# Altium schematic symbol library diode.SchLib: 33 symbols
Pins are listed as number, name and electrical type; pins without a type are passive.

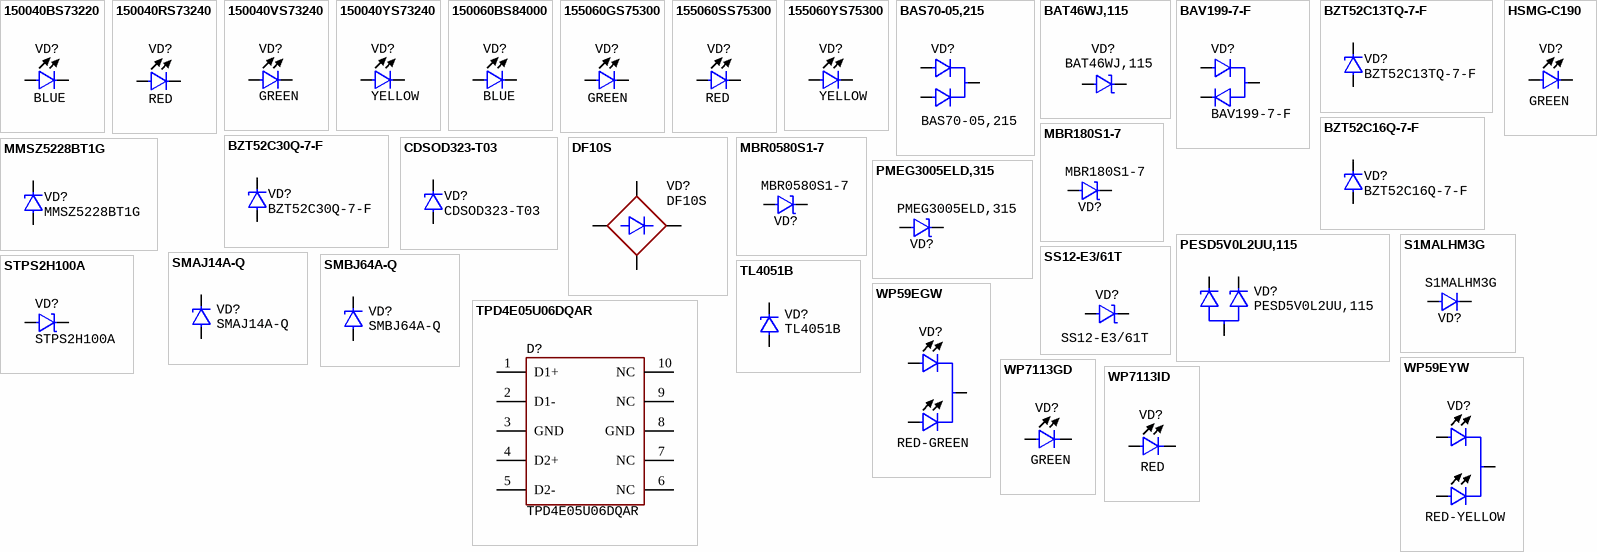
[diagram p0: symbols 150040BS73220 to WP7113ID]

## 150040BS73220
designator VD?  Color: BLUE  (hidden comment: 150040BS73220)
LED, Blue, case 0402, 3.2V, 30mA, -40...+85°C; Manufacturer: Wurth; Manufacturer: Wurth Electronics; PartNumber: 150040BS73220; Package: 0402; HelpURL: https://ru.mouser.com/ProductDetail/Wurth-Elektronik/150040BS73220?qs=u16ybLDytRa6gY6jG0El6g%3D%3D; Manufacturer Part Number: 150040BS73220; Component Type: Diodes
footprint LED: 0402B
pins: 1, 2

## 150040RS73240
designator VD?  Color: RED  (hidden comment: 150040RS73240)
LED, Red, case 0402, 2V, 30mA, -40...+85°C; Manufacturer: Wurth; Manufacturer: Wurth Electronics; HelpURL: https://eu.mouser.com/ProductDetail/Wurth-Elektronik/150040RS73240?qs=8Aam6%252B7C6HGMiInmnlrBiw%3D%3D; PartNumber: 150040RS73240; Package: 0402; Manufacturer Part Number: 150040RS73240; Component Type: Diodes
footprint LED: 0402R
pins: 1, 2

## 150040VS73240
designator VD?  Color: GREEN  (hidden comment: 150040VS73240)
LED, Green, case 0402, 2V, 30mA, -40...+85°C; Manufacturer: Wurth; Manufacturer: Wurth Electronics; HelpURL: https://ru.mouser.com/ProductDetail/Wurth-Elektronik/150040VS73240?qs=8Aam6%252B7C6HEhyesRm%252BQyFQ%3D%3D; Package: 0402; PartNumber: 150040VS73240; Manufacturer Part Number: 150040VS73240; Component Type: Diodes
footprint LED: 0402G
pins: 1, 2

## 150040YS73240
designator VD?  Color: YELLOW  (hidden comment: 150040YS73240)
LED, Yellow, case 0402, 2V, 30mA, -40...+85°C; Manufacturer: Wurth; Manufacturer: Wurth Electronics; HelpURL: https://ru.mouser.com/ProductDetail/Wurth-Elektronik/150040YS73240?qs=8Aam6%252B7C6HFi%252BY4Pboxj6w%3D%3D; Package: 0402; PartNumber: 150040YS73240; Manufacturer Part Number: 150040YS73240; Component Type: Diodes
footprint LED: 0402Y
pins: 1, 2

## 150060BS84000
designator VD?  Color: BLUE  (hidden comment: 150060BS84000)
LED, Blue, case 0603, 3.2V, 30mA, -40...+85°C; Manufacturer: Wurth; Manufacturer: Wurth Electronics; HelpURL: https://ru.mouser.com/ProductDetail/Wurth-Elektronik/150060BS84000?qs=GedFDFLaBXH%2FqfYoSeFEow%3D%3D; PartNumber: 150060BS84000; Package: 0603; Manufacturer Part Number: 150060BS84000; Component Type: Diodes
footprint LED: 0603B
pins: 1, 2

## 155060GS75300
designator VD?  Color: GREEN  (hidden comment: 155060GS75300)
LED, Green, case 0603, 3.2V, 30mA, -40...+85°C; Manufacturer: Wurth; Manufacturer: Wurth Electronics; PartNumber: 155060GS75300; Package: 0603; HelpURL: https://ru.mouser.com/ProductDetail/Wurth-Elektronik/155060GS75300?qs=GedFDFLaBXH9gWG%252BJzMHAg%3D%3D; Manufacturer Part Number: 155060GS75300; Component Type: Diodes
footprint LED: 0603G
pins: 1, 2

## 155060SS75300
designator VD?  Color: RED  (hidden comment: 155060SS75300)
LED, Red, case 0603, 2V, 20mA, -40...+85°C; Manufacturer: Wurth; Manufacturer: Wurth Electronics; HelpURL: https://ru.mouser.com/ProductDetail/Wurth-Elektronik/155060SS75300?qs=GedFDFLaBXFp%252Bdn3xLi%2Ftw%3D%3D; Package: 0603; PartNumber: 155060SS75300; Manufacturer Part Number: 155060SS75300; Component Type: Diodes
footprint LED: 0603R
pins: 1, 2

## 155060YS75300
designator VD?  Color: YELLOW  (hidden comment: 155060YS75300)
LED, Yellow, case 0603, 2.0V, 20mA, -40...+85°C; Manufacturer: Wurth; Manufacturer: Wurth Electronics; Package: 0603; PartNumber: 155060YS75300; HelpURL: https://ru.mouser.com/ProductDetail/Wurth-Elektronik/155060YS75300?qs=GedFDFLaBXEwSIA7gkV3Wg%3D%3D; Manufacturer Part Number: 155060YS75300; Component Type: Diodes
footprint LED: 0603Y
pins: 1, 2

## BAS70-05,215
designator VD?
Dual fast, 70V, 70mA, 1V, SOT-23, -65...+150°C; Manufacturer: STMicroelectronics; Manufacturer: Nexperia; Package: SOT-23; HelpURL: https://ru.mouser.com/ProductDetail/STMicroelectronics/BAT54AFILM?qs=ZqsBt%2FsRP872DE5MvMainw%3D%3D; Manufacturer Part Number: BAS70-05,215; Component Type: Diodes; PartNumber: BAS70-05,215
footprint SOT23
pins: 1, 2, 3

## BAT46WJ,115
designator VD?
Schottky, 100V, 250mA, SOD-323, 71mV, -55...+175°C; Manufacturer: Nexperia; Package: SOD-323; HelpURL: https://ru.mouser.com/ProductDetail/Nexperia/BAT46WJ115?qs=0kdNCY%252BdvEBTfZilQVwWsg%3D%3D; Manufacturer Part Number: BAT46WJ,115; Component Type: Diodes; PartNumber: BAT46WJ,115
footprint DIODE: SOD323
pins: 1, 2

## BAV199-7-F
designator VD?
Dual fast, 85V, 160mA, 0.25W, SOT-23, -65...+150°C; Manufacturer: Diodes Incorporated; Manufacturer: Diodes; PartNumber: BAV199-7-F; HelpURL: https://ru.mouser.com/ProductDetail/Diodes-Incorporated/BAV199-7-F?qs=%2Fha2pyFaduhXaaYiIhCxnqqB5E33PUbBPA9ss6MOBO8%3D; Package: SOT-23; Manufacturer Part Number: BAV199-7-F; Component Type: Diodes
footprint SOT23
pins: 1, 2, 3

## BZT52C13TQ-7-F
designator VD?
TVS, 13V, 30 Ohms, 900mV, SOD-523, -55...+150°C; Manufacturer: Diodes Incorporated; Manufacturer: Diodes; HelpURL: https://ru.mouser.com/ProductDetail/Diodes-Incorporated/BZT52C13TQ-7-F?qs=W0yvOO0ixfGE8DMfIe%252Bn6g%3D%3D; Package: SOD-523; Manufacturer Part Number: BZT52C13TQ-7-F; Component Type: Diodes; PartNumber: BZT52C13TQ-7-F
footprint SOD523
pins: 1, 2

## BZT52C16Q-7-F
designator VD?
TVS, 16V, 40 Ohm, SOD-123, 900mV, -55...+150°C; Manufacturer: Diodes; Package: SOD-123; HelpURL: https://eu.mouser.com/ProductDetail/Diodes-Incorporated/BZT52C16Q-7-F?qs=vdQOMtKMWaAZAzb4DwCc1g%3D%3D; PartNumber: BZT52C16Q-7-F
footprint SOD123
pins: 1, 2

## BZT52C30Q-7-F
designator VD?
TVS, 30V, 80 Ohm, SOD-123, 900mV, -55...+150°C; Manufacturer: Diodes; Package: SOD-123; HelpURL: https://eu.mouser.com/ProductDetail/Diodes-Incorporated/BZT52C30Q-7-F?qs=vdQOMtKMWaDqZMXH1bjrsg%3D%3D; PartNumber: BZT52C30Q-7-F
footprint SOD123
pins: 1, 2

## CDSOD323-T03
designator VD?
TVS, 3.3V, 20A, SOD-323-2, 350W, -55...+150°C; Manufacturer: Bourns; HelpURL: https://www.mouser.com/ProductDetail/Bourns/CDSOD323-T03?qs=N%252BiqXe0%252BQtsQvCmNQToHKw%3D%3D; Package: SOD-323; Manufacturer Part Number: CDSOD323-T03; Component Type: Diodes; PartNumber: CDSOD323-T03
footprint DIODE: SOD323
pins: 1, 2

## DF10S
designator VD?
Bridge, 1-ph, 1000V, 1A, -55...+150°C; Manufacturer: Fairchild; HelpURL: https://www.chipdip.ru/product/df10s; PartNumber: DF10S
footprint DIODE: DF10S
pins: 1, 2, 3, 4

## HSMG-C190
designator VD?  Color: GREEN  (hidden comment: HSMG-C190)
LED, Green, case 0603, 2.2V, 20mA, -40...+85°C; Manufacturer: Broadcom / Avago; Manufacturer: Broadcom Avago; Package: 0603; PartNumber: HSMG-C190; HelpURL: https://www.mouser.com/ProductDetail/Broadcom-Avago/HSMG-C190?qs=YDL0qNrpDT605sxOaps8VQ%3D%3D; Manufacturer Part Number: HSMG-C190; Component Type: Diodes
footprint LED: 0603G
pins: 1, 2

## MBR180S1-7
designator VD?
Schottky, 80V, 1A, SOD-123, 800mV, -55...+175°C; Manufacturer: Diodes; PartNumber: MBR180S1-7; HelpURL: https://eu.mouser.com/ProductDetail/Diodes-Incorporated/MBR180S1-7?qs=nJRy1mI8RR%2FolksChHMSWQ%3D%3D; Package: SOD-123
footprint SOD123
pins: 1, 2

## MBR0580S1-7
designator VD?
Schottky, 80V, 500mA, SOD-123, 800mV, -55...+175°C; Manufacturer: Diodes Incorporated; Manufacturer: Diodes; PartNumber: MBR0580S1-7; HelpURL: https://ru.mouser.com/ProductDetail/Diodes-Incorporated/MBR0580S1-7?qs=%2Fha2pyFaduiejhsLVSlTCu7LbnPbUVowU6UK2RbVsHN81MZwv%252BmH9Q%3D%3D; Package: SOD-123; Manufacturer Part Number: MBR0580S1-7; Component Type: Diodes
footprint SOD123
pins: 1, 2

## MMSZ5228BT1G
designator VD?
TVS, 3.9V, 23 Ohm, SOD-123, 900mV, -55...+150°C; Manufacturer: ON Semiconductor; Package: SOD-123; HelpURL: https://ru.mouser.com/ProductDetail/onsemi/MMSZ5228BT1G?qs=P4IOph%252Bbot%2FRESO7XdJPcg%3D%3D; Manufacturer Part Number: MMSZ5228BT1G; Component Type: Diodes; PartNumber: MMSZ5228BT1G
footprint SOD123
pins: 1, 2

## PESD5V0L2UU,115
designator VD?
TVS dual, 5V, 20W peak, 38 pF, 6.5, SC-70, -55...+150°C; Manufacturer: Nexperia; HelpURL: https://ru.mouser.com/ProductDetail/Nexperia/PESD5V0L2UU115?qs=LMSg3oBIm%2FgBNgVxLPicXA%3D%3D; Package: SC-70; Component Type: Diodes; PartNumber: PESD5V0L2UU,115
footprint SC-70
pins: 1, 2, 3

## PMEG3005ELD,315
designator VD?
Schottky, 30V, 3A, DFN-1006, 450mV, -65...+150°C; Manufacturer: Nexperia; Manufacturer: Nexperia USA; PartNumber: PMEG3005ELD,315; Package: DFN-1006; HelpURL: https://ru.mouser.com/ProductDetail/Nexperia/PMEG3005ELD315?qs=j56XEm5BXrSQr1dGtOQTNA%3D%3D; Manufacturer Part Number: PMEG3005ELD,315; Component Type: Diodes
footprint DFN-1006
pins: 1, 2

## S1MALHM3G
designator VD?
Ultra-fast, 1000V, 1A, SMA, 960mV, -55...+155°C; Manufacturer: Taiwan Semiconductor; PartNumber: S1MALHM3G; Package: SMA; HelpURL: https://ru.mouser.com/ProductDetail/Taiwan-Semiconductor/S1MALHM3G?qs=DPoM0jnrROVYla6tchCA6w%3D%3D; Manufacturer Part Number: S1MALHM3G; Component Type: Diodes
footprint SMA
pins: 1, 2

## SMAJ14A-Q
designator VD?
TVS, 14V, peak 17.2A, 400W, SMA, -55...+150°C; Manufacturer: Bourns; Package: SMA; HelpURL: https://ru.mouser.com/ProductDetail/Bourns/SMAJ14A-Q?qs=f9yNj16SXrLRslQgq0orKg%3D%3D; Manufacturer Part Number: SMAJ14A-Q; Component Type: Diodes; PartNumber: SMAJ14A-Q
footprint SMA
pins: 1, 2

## SMBJ64A-Q
designator VD?
TVS, 64V, 5.9A, 600W, SMB, -65...+150°C; Manufacturer: Bourns; Manufacturer Part Number: SMBJ64A-QH; HelpURL: https://ru.mouser.com/ProductDetail/Bourns/SMBJ64A-Q?qs=T94vaHKWudQFBUYMjIDCug%3D%3D; Package: SMB; Component Type: Diodes; PartNumber: SMBJ64A-Q
footprint SMB (DIODE)
pins: 1, 2

## SS12-E3/61T
designator VD?
Schottky, 20V, 1A, SMA, 0.5V, -65...+150°C; Manufacturer: Vishay; Manufacturer: Vishay Semiconductors; Package: SMA; HelpURL: https://www.mouser.com/ProductDetail/Vishay-General-Semiconductor/SS12-E3-61T?qs=x2jpVgRnAtMAR%252B%2FC0Ttl9A%3D%3D; Manufacturer Part Number: SS12-E3/61T; Component Type: Diodes; PartNumber: SS12-E3/61T
footprint SMA
pins: 1, 2

## STPS2H100A
designator VD?
Schottky, 100V, 2A, SMA, 790mV, -55...+175°C; Manufacturer: STMicroelectronics; HelpURL: https://ru.mouser.com/ProductDetail/STMicroelectronics/STPS2H100A?qs=9NrABl3fj%2Fp1zx5VJvdclQ%3D%3D; Package: SMA; Manufacturer Part Number: STPS2H100A; Component Type: Diodes; PartNumber: STPS2H100A
footprint SMA
pins: 1, 2

## TL4051B
designator VD?
Zener, 1.225V, 12 mA, ±0.2%, SOT-23-3, 50ppm/°C, -55...+150°C; PartNumber: TL4051B12IDBZR; Manufacturer: Texas Instruments; HelpURL: https://www.digikey.com/en/products/detail/texas-instruments/TL4051B12IDBZR/1739861?s=N4IgTCBcDaICoBkAsAGArARgEIbASQBEsAtAJRAF0BfIA; Package: SOT-23-3; Manufacturer Part Number: TL4051B12IDBZR; Component Type: Diodes
footprint SOT23
pins: 1, 2

## TPD4E05U06DQAR
designator D?
TVS, 4 channels, 5.5V, 5A, 40W, SMB, -40...+125°C; Manufacturer: Texas Instruments; HelpURL: https://www.mouser.com/ProductDetail/Texas-Instruments/TPD4E05U06DQAR?qs=%2FCrDlo5IrVPi4woOvWz0qA%3D%3D; Package: USON-10; Manufacturer Part Number: TPD4E05U06DQAR; Component Type: Diodes; PartNumber: TPD4E05U06DQAR
footprint IC: TPD4E05U06DQAR
pins: 1 D1+, 2 D1-, 3 GND, 4 D2+, 5 D2-, 6 NC, 7 NC, 8 GND, 9 NC, 10 NC

## WP59EGW
designator VD?  Color: RED-GREEN  (hidden comment: WP59EGW)
LED, Red-Green, C. Cathode, case t-1 3/4, 3.2V, 30mA, -40...+85°C; PartNumber: 150040BS73220; Manufacturer: Wurth; Manufacturer: Wurth Electronics; Package: 0402; HelpURL: https://ru.mouser.com/ProductDetail/Wurth-Elektronik/150040BS73220?qs=u16ybLDytRa6gY6jG0El6g%3D%3D; Manufacturer Part Number: 150040BS73220; Component Type: Diodes
footprint DIODE:TH T-1 3/4 (LED 5mm two color)
pins: 1, 2, 3

## WP59EYW
designator VD?  Color: RED-YELLOW  (hidden comment: WP59EYW)
LED, Red-Yellow, C. Cathode, case t-1 3/4, 3.2V, 30mA, -40...+85°C; PartNumber: 150040BS73220; Manufacturer: Wurth; Manufacturer: Wurth Electronics; Package: 0402; HelpURL: https://ru.mouser.com/ProductDetail/Wurth-Elektronik/150040BS73220?qs=u16ybLDytRa6gY6jG0El6g%3D%3D; Manufacturer Part Number: 150040BS73220; Component Type: Diodes
footprint DIODE:TH T-1 3/4 (LED 5mm two color)
pins: 1, 2, 3

## WP7113GD
designator VD?  Color: GREEN  (hidden comment: WP7113GD)
LED, Green, case t-1 3/4, 3.2V, 30mA, -40...+85°C; PartNumber: 150040BS73220; Manufacturer: Wurth; Manufacturer: Wurth Electronics; Package: 0402; HelpURL: https://ru.mouser.com/ProductDetail/Wurth-Elektronik/150040BS73220?qs=u16ybLDytRa6gY6jG0El6g%3D%3D; Manufacturer Part Number: 150040BS73220; Component Type: Diodes
footprint DIODE:TH T-1 3/4 2pin (LED 5mm)
pins: 1, 2

## WP7113ID
designator VD?  Color: RED  (hidden comment: WP7113ID)
LED, Red, case t-1 3/4, 3.2V, 30mA, -40...+85°C; PartNumber: 150040BS73220; Manufacturer: Wurth; Manufacturer: Wurth Electronics; Package: 0402; HelpURL: https://ru.mouser.com/ProductDetail/Wurth-Elektronik/150040BS73220?qs=u16ybLDytRa6gY6jG0El6g%3D%3D; Manufacturer Part Number: 150040BS73220; Component Type: Diodes
footprint DIODE:TH T-1 3/4 2pin (LED 5mm)
pins: 1, 2